# Altium footprint library TMP 60.PcbLib: 1 footprints
Each footprint in its own frame and in the unit in brackets; x right, y up, seen from the top. Pads: shape width x height; smd on the part's side, far side on the other; paste and mask are expansions set on the pad; w line width, h text height; cw(c..) or ccw(c..) is an arc to the next point about the centre after c.
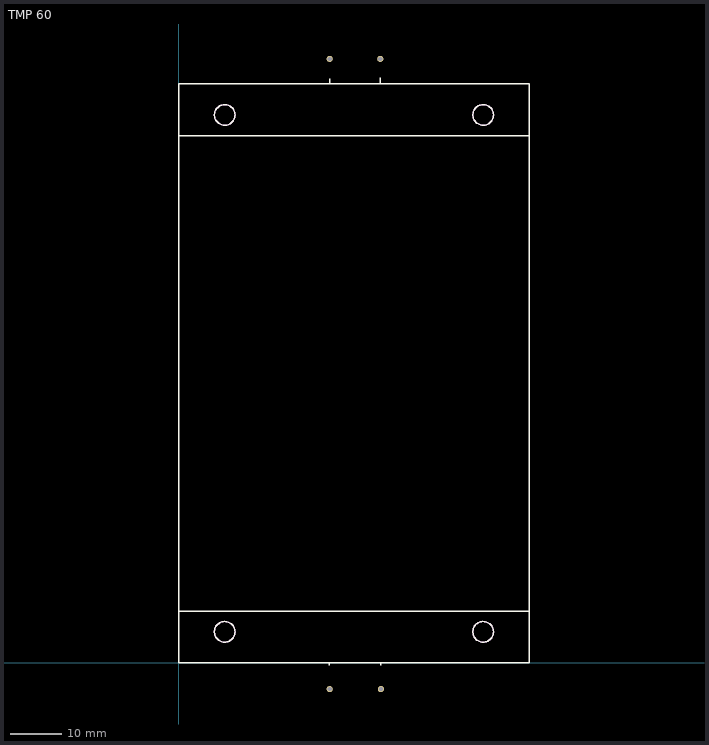
[diagram p0: the footprint, top view; thin cyan lines are the x and y axes]

## TMP 60 [mm]
pads (4):
  round 1.2 hole 0.8: 1(29.21,-5.08) 2(39.116,-5.08) 4(29.21,116.84) 6(38.989,116.84)
Top Overlay:
  circle w0.254: c8.9,6 r2
  circle w0.254: c58.9,6 r2
  circle w0.254: c8.9,106 r2
  circle w0.254: c58.9,106 r2
  lines w0.254: 0,10 67.818,10 ; 0,102 67.818,102 ; 29.083,-0.508 29.083,0 ; 29.21,112.014 29.21,113.03 ; 38.989,112.141 38.989,113.157 ; 39.116,-0.508 39.116,0 ; 0,0 67.818,0 67.818,112 0,112 0,0
Top Solder:
  text "220VAC" at 29.972,0.762 h1.52
  text "-" at 41.91,117.602 h1.52
  text "+" at 27.178,117.602 h1.52
  text "L" at 40.386,-5.842 h1.52
  text "N" at 26.924,-5.842 h1.52
  text "24VDC" at 37.592,117.602 h1.52
Mechanical 1:
  circle w0.254: c58.9,106 r2
  circle w0.254: c8.9,106 r2
  circle w0.254: c58.9,6 r2
  circle w0.254: c8.9,6 r2
3D body: height 33, standoff 0, extent 0,10.033 67.818,101.981
3D body: height 5, standoff 0, extent 0,0 67.818,112.014